# Altium schematic symbol library RTC.SchLib: 3 symbols
Pins are listed as number, name and electrical type; pins without a type are passive.

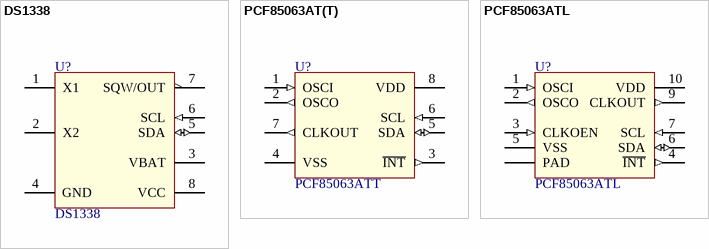
[diagram p0: symbols DS1338 to PCF85063ATL]

## DS1338
designator U?
Value: DS1338
footprint D008_N (8-Pin Small Outline Integrated Circuit 1.27 mm Pitch, IPC Medium Density)
pins: 1 X1, 2 X2, 3 VBAT (power), 4 GND (power), 5 SDA (io), 6 SCL (in), 7 SQW/OUT (oc), 8 VCC (power)

## PCF85063AT(T)
designator U?, comment value PCF85063ATT  (hidden comment: PCF85063AT)
PCF85063
footprint TSSOP-8 (SOT505-1) (TSSOP, 8-Leads, Body 3.00x3.00mm, Pitch 0.65mm, IPC Medium Density)
footprint SO-8_N (8-Pin Small Outline Integrated Circuit 1.27 mm Pitch, IPC Medium Density)
pins: 1 OSCI (in), 2 OSCO (out), 3 ~{INT} (out), 4 VSS (power), 5 SDA (io), 6 SCL (in), 7 CLKOUT (out), 8 VDD (power)

## PCF85063ATL
designator U?
Value: PCF85063ATL
footprint DFN-10-2.6x2.6 (SOT1197-1) (DFN, 10-Leads, Body 2.60x2.60mm, Pitch 0.50mm, Thermal Pad 2.15x1.25mm, IPC Medium Density)
pins: 1 OSCI (in), 2 OSCO (out), 3 CLKOEN (in) "CLKOUT enable or disable pin; enable is active HIGH", 4 ~{INT} (out), 5 VSS (power), 6 SDA (io), 7 SCL (in), 9 CLKOUT (out), 10 VDD (power), 11 PAD (power)